# Altium schematic symbol library Altium_Workshop_2020.SchLib: 5 symbols
Pins are listed as number, name and electrical type; pins without a type are passive.

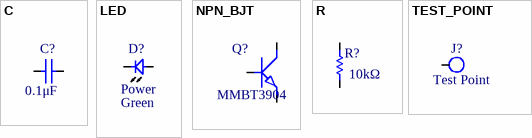
[diagram p0: symbols C to TEST_POINT]

## C
designator C?, comment 0.1μF
Generic non-polarised capacitor.; Revision: July-2002: Re-released for DXP Platform.; Value: 0.1μF
footprint 0805_CAP (0805 Capacitor)
pins: 1, 2

## LED
designator D?, comment Power  Color: Green
Generic LED.; Revision: July-2002: Re-released for DXP Platform.; Value: Power
footprint 0805_DIODE (0805 LED)
pins: A, K

## NPN_BJT
designator Q?, comment MMBT3904
Generic NPN bipolar transistor.; Value: MMBT3904
footprint SOT23-3
pins: 1 B, 2 E, 3 C

## R
designator R?, comment 10kΩ
Generic resistor.; Value: 10kΩ
footprint 0805_RES (0805 Resistor)
pins: 1, 2

## TEST_POINT
designator J?, comment Test Point
Generic wire-to-board point or test point.; Value: Test Point
footprint PIN_1MM (Single Pin)
pins: 1 J